# Altium integrated library RES_CHIP_JLC.IntLib: 321 symbols (part 1 of 2)
Pins are listed as number, name and electrical type; pins without a type are passive.

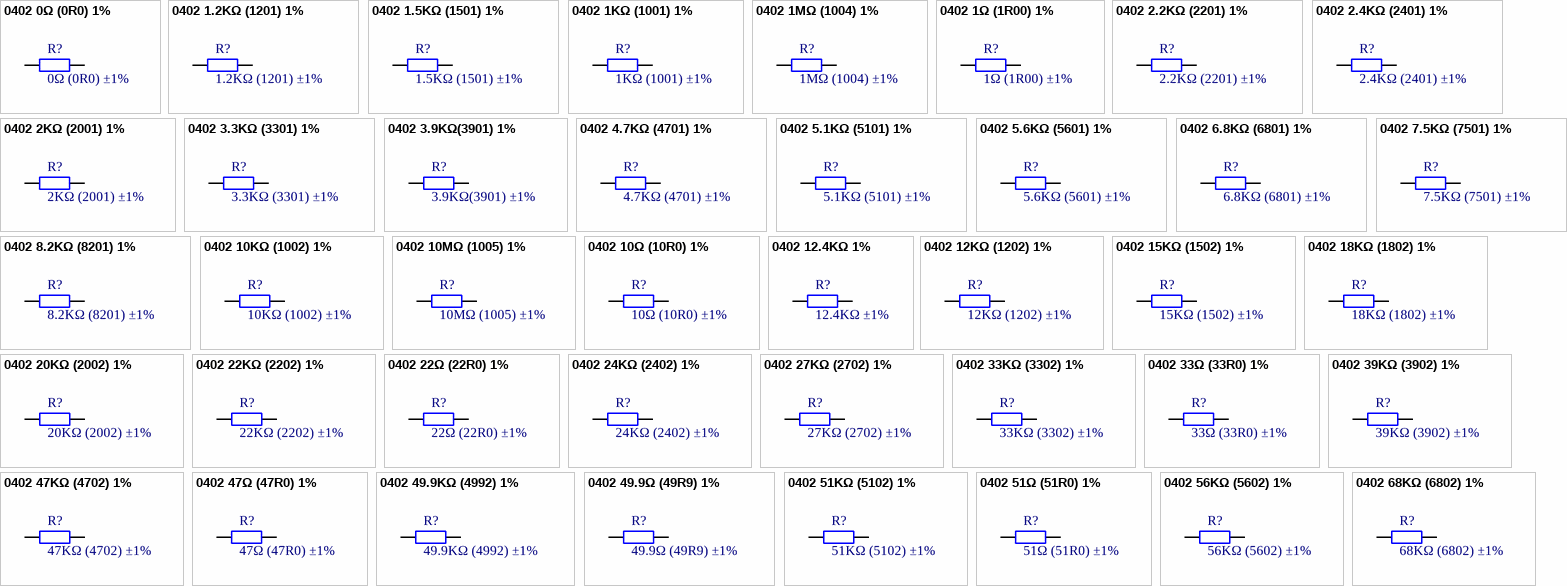
[diagram p0: symbols 0402 0Ω (0R0) 1% to 0402 68KΩ (6802) 1%]

## 0402 0Ω (0R0) 1%
designator R?, comment 0Ω (0R0) ±1%
贴片电阻; ComponentLink1Description: 供应商链接; ComponentLink1URL: http://www.szlcsc.com/product/details_17853.html; Package: 0402; Supplier: LC; SuppliersPartNumber: C17168
footprint 0402_R
pins: 1, 2

## 0402 1.2KΩ (1201) 1%
designator R?, comment 1.2KΩ (1201) ±1%
贴片电阻; ComponentLink1Description: 供应商链接; ComponentLink1URL: http://www.szlcsc.com/product/details_26605.html; Package: 0402; Supplier: LC; SuppliersPartNumber: C25862
footprint 0402_R
pins: 1, 2

## 0402 1.5KΩ (1501) 1%
designator R?, comment 1.5KΩ (1501) ±1%
贴片电阻; ComponentLink1Description: 供应商链接; ComponentLink1URL: http://www.szlcsc.com/product/details_26610.html; Package: 0402; Supplier: LC; SuppliersPartNumber: C25867
footprint 0402_R
pins: 1, 2

## 0402 1KΩ (1001) 1%
designator R?, comment 1KΩ (1001) ±1%
贴片电阻; ComponentLink1Description: 供应商链接; ComponentLink1URL: http://www.szlcsc.com/product/details_12256.html; Package: 0402; Supplier: LC; SuppliersPartNumber: C11702
footprint 0402_R
pins: 1, 2

## 0402 1MΩ (1004) 1%
designator R?, comment 1MΩ (1004) ±1%
贴片电阻; ComponentLink1Description: 供应商链接; ComponentLink1URL: http://www.szlcsc.com/product/details_26826.html; Package: 0402; Supplier: LC; SuppliersPartNumber: C26083
footprint 0402_R
pins: 1, 2

## 0402 1Ω (1R00) 1%
designator R?, comment 1Ω (1R00) ±1%
贴片电阻; ComponentLink1Description: 供应商链接; ComponentLink1URL: http://www.szlcsc.com/product/details_25829.html; Package: 0402; Supplier: LC; SuppliersPartNumber: C25086
footprint 0402_R
pins: 1, 2

## 0402 2.2KΩ (2201) 1%
designator R?, comment 2.2KΩ (2201) ±1%
贴片电阻; ComponentLink1Description: 供应商链接; ComponentLink1URL: http://www.szlcsc.com/product/details_26622.html; Package: 0402; Supplier: LC; SuppliersPartNumber: C25879
footprint 0402_R
pins: 1, 2

## 0402 2.4KΩ (2401) 1%
designator R?, comment 2.4KΩ (2401) ±1%
贴片电阻; ComponentLink1Description: 供应商链接; ComponentLink1URL: http://www.szlcsc.com/product/details_26625.html; Package: 0402; Supplier: LC; SuppliersPartNumber: C25882
footprint 0402_R
pins: 1, 2

## 0402 2KΩ (2001) 1%
designator R?, comment 2KΩ (2001) ±1%
贴片电阻; ComponentLink1Description: 供应商链接; ComponentLink1URL: http://www.szlcsc.com/product/details_4516.html; Package: 0402; Supplier: LC; SuppliersPartNumber: C4109
footprint 0402_R
pins: 1, 2

## 0402 3.3KΩ (3301) 1%
designator R?, comment 3.3KΩ (3301) ±1%
贴片电阻; ComponentLink1Description: 供应商链接; ComponentLink1URL: http://www.szlcsc.com/product/details_26633.html; Package: 0402; Supplier: LC; SuppliersPartNumber: C25890
footprint 0402_R
pins: 1, 2

## 0402 3.9KΩ(3901) 1%
designator R?, comment 3.9KΩ(3901) ±1%
贴片电阻; ComponentLink1Description: 供应商链接; ComponentLink1URL: http://www.szlcsc.com/product/details_52734.html; Package: 0402; Supplier: LC; SuppliersPartNumber: C51721
footprint 0402_R
pins: 1, 2

## 0402 4.7KΩ (4701) 1%
designator R?, comment 4.7KΩ (4701) ±1%
贴片电阻; ComponentLink1Description: 供应商链接; ComponentLink1URL: http://www.szlcsc.com/product/details_26643.html; Package: 0402; Supplier: LC; SuppliersPartNumber: C25900
footprint 0402_R
pins: 1, 2

## 0402 5.1KΩ (5101) 1%
designator R?, comment 5.1KΩ (5101) ±1%
贴片电阻; ComponentLink1Description: 供应商链接; ComponentLink1URL: http://www.szlcsc.com/product/details_26648.html; Package: 0402; Supplier: LC; SuppliersPartNumber: C25905
footprint 0402_R
pins: 1, 2

## 0402 5.6KΩ (5601) 1%
designator R?, comment 5.6KΩ (5601) ±1%
贴片电阻; ComponentLink1Description: 供应商链接; ComponentLink1URL: http://www.szlcsc.com/product/details_26651.html; Package: 0402; Supplier: LC; SuppliersPartNumber: C25908
footprint 0402_R
pins: 1, 2

## 0402 6.8KΩ (6801) 1%
designator R?, comment 6.8KΩ (6801) ±1%
贴片电阻; ComponentLink1Description: 供应商链接; ComponentLink1URL: http://www.szlcsc.com/product/details_26660.html; Package: 0402; Supplier: LC; SuppliersPartNumber: C25917
footprint 0402_R
pins: 1, 2

## 0402 7.5KΩ (7501) 1%
designator R?, comment 7.5KΩ (7501) ±1%
贴片电阻; ComponentLink1Description: 供应商链接; ComponentLink1URL: http://www.szlcsc.com/product/details_26661.html; Package: 0402; Supplier: LC; SuppliersPartNumber: C25918
footprint 0402_R
pins: 1, 2

## 0402 8.2KΩ (8201) 1%
designator R?, comment 8.2KΩ (8201) ±1%
贴片电阻; ComponentLink1Description: 供应商链接; ComponentLink1URL: http://www.szlcsc.com/product/details_26667.html; Package: 0402; Supplier: LC; SuppliersPartNumber: C25924
footprint 0402_R
pins: 1, 2

## 0402 10KΩ (1002) 1%
designator R?, comment 10KΩ (1002) ±1%
贴片电阻; ComponentLink1Description: 供应商链接; ComponentLink1URL: http://www.szlcsc.com/product/details_26487.html; Package: 0402; Supplier: LC; SuppliersPartNumber: C25744
footprint 0402_R
pins: 1, 2

## 0402 10MΩ (1005) 1%
designator R?, comment 10MΩ (1005) ±1%
贴片电阻; ComponentLink1Description: 供应商链接; ComponentLink1URL: http://www.szlcsc.com/product/details_26825.html; Package: 0402; Supplier: LC; SuppliersPartNumber: C26082
footprint 0402_R
pins: 1, 2

## 0402 10Ω (10R0) 1%
designator R?, comment 10Ω (10R0) ±1%
贴片电阻; ComponentLink1Description: 供应商链接; ComponentLink1URL: http://www.szlcsc.com/product/details_25820.html; Package: 0402; Supplier: LC; SuppliersPartNumber: C25077
footprint 0402_R
pins: 1, 2

## 0402 12.4KΩ 1%
designator R?, comment 12.4KΩ ±1%
贴片电阻; ComponentLink1Description: 供应商链接; ComponentLink1URL: http://www.szlcsc.com/product/details_26495.html; Package: 0402; Supplier: LC; SuppliersPartNumber: C25752
footprint 0402_R
pins: 1, 2

## 0402 12KΩ (1202) 1%
designator R?, comment 12KΩ (1202) ±1%
贴片电阻; ComponentLink1Description: 供应商链接; ComponentLink1URL: http://www.szlcsc.com/product/details_26495.html; Package: 0402; Supplier: LC; SuppliersPartNumber: C25752
footprint 0402_R
pins: 1, 2

## 0402 15KΩ (1502) 1%
designator R?, comment 15KΩ (1502) ±1%
贴片电阻; ComponentLink1Description: 供应商链接; ComponentLink1URL: http://www.szlcsc.com/product/details_26499.html; Package: 0402; Supplier: LC; SuppliersPartNumber: C25756
footprint 0402_R
pins: 1, 2

## 0402 18KΩ (1802) 1%
designator R?, comment 18KΩ (1802) ±1%
贴片电阻; ComponentLink1Description: 供应商链接; ComponentLink1URL: http://www.szlcsc.com/product/details_26505.html; Package: 0402; Supplier: LC; SuppliersPartNumber: C25762
footprint 0402_R
pins: 1, 2

## 0402 20KΩ (2002) 1%
designator R?, comment 20KΩ (2002) ±1%
贴片电阻; ComponentLink1Description: 供应商链接; ComponentLink1URL: http://www.szlcsc.com/product/details_26508.html; Package: 0402; Supplier: LC; SuppliersPartNumber: C25765
footprint 0402_R
pins: 1, 2

## 0402 22KΩ (2202) 1%
designator R?, comment 22KΩ (2202) ±1%
贴片电阻; ComponentLink1Description: 供应商链接; ComponentLink1URL: http://www.szlcsc.com/product/details_26511.html; Package: 0402; Supplier: LC; SuppliersPartNumber: C25768
footprint 0402_R
pins: 1, 2

## 0402 22Ω (22R0) 1%
designator R?, comment 22Ω (22R0) ±1%
贴片电阻; ComponentLink1Description: 供应商链接; ComponentLink1URL: http://www.szlcsc.com/product/details_25835.html; Package: 0402; Supplier: LC; SuppliersPartNumber: C25092
footprint 0402_R
pins: 1, 2

## 0402 24KΩ (2402) 1%
designator R?, comment 24KΩ (2402) ±1%
贴片电阻; ComponentLink1Description: 供应商链接; ComponentLink1URL: http://www.szlcsc.com/product/details_26512.html; Package: 0402; Supplier: LC; SuppliersPartNumber: C25769
footprint 0402_R
pins: 1, 2

## 0402 27KΩ (2702) 1%
designator R?, comment 27KΩ (2702) ±1%
贴片电阻; ComponentLink1Description: 供应商链接; ComponentLink1URL: http://www.szlcsc.com/product/details_26514.html; Package: 0402; Supplier: LC; SuppliersPartNumber: C25771
footprint 0402_R
pins: 1, 2

## 0402 33KΩ (3302) 1%
designator R?, comment 33KΩ (3302) ±1%
贴片电阻; ComponentLink1Description: 供应商链接; ComponentLink1URL: http://www.szlcsc.com/product/details_26522.html; Package: 0402; Supplier: LC; SuppliersPartNumber: C25779
footprint 0402_R
pins: 1, 2

## 0402 33Ω (33R0) 1%
designator R?, comment 33Ω (33R0) ±1%
贴片电阻; ComponentLink1Description: 供应商链接; ComponentLink1URL: http://www.szlcsc.com/product/details_25848.html; Package: 0402; Supplier: LC; SuppliersPartNumber: C25105
footprint 0402_R
pins: 1, 2

## 0402 39KΩ (3902) 1%
designator R?, comment 39KΩ (3902) ±1%
贴片电阻; ComponentLink1Description: 供应商链接; ComponentLink1URL: http://www.szlcsc.com/product/details_26526.html; Package: 0402; Supplier: LC; SuppliersPartNumber: C25783
footprint 0402_R
pins: 1, 2

## 0402 47KΩ (4702) 1%
designator R?, comment 47KΩ (4702) ±1%
贴片电阻; ComponentLink1Description: 供应商链接; ComponentLink1URL: http://www.szlcsc.com/product/details_26535.html; Package: 0402; Supplier: LC; SuppliersPartNumber: C25792
footprint 0402_R
pins: 1, 2

## 0402 47Ω (47R0) 1%
designator R?, comment 47Ω (47R0) ±1%
贴片电阻; ComponentLink1Description: 供应商链接; ComponentLink1URL: http://www.szlcsc.com/product/details_25861.html; Package: 0402; Supplier: LC; SuppliersPartNumber: C25118
footprint 0402_R
pins: 1, 2

## 0402 49.9KΩ (4992) 1%
designator R?, comment 49.9KΩ (4992) ±1%
贴片电阻; ComponentLink1Description: 供应商链接; ComponentLink1URL: http://www.szlcsc.com/product/details_26640.html; Package: 0402; Supplier: LC; SuppliersPartNumber: C25897
footprint 0402_R
pins: 1, 2

## 0402 49.9Ω (49R9) 1%
designator R?, comment 49.9Ω (49R9) ±1%
贴片电阻; ComponentLink1Description: 供应商链接; ComponentLink1URL: http://www.szlcsc.com/product/details_25863.html; Package: 0402; Supplier: LC; SuppliersPartNumber: C25120
footprint 0402_R
pins: 1, 2

## 0402 51KΩ (5102) 1%
designator R?, comment 51KΩ (5102) ±1%
贴片电阻; ComponentLink1Description: 供应商链接; ComponentLink1URL: http://www.szlcsc.com/product/details_26537.html; Package: 0402; Supplier: LC; SuppliersPartNumber: C25794
footprint 0402_R
pins: 1, 2

## 0402 51Ω (51R0) 1%
designator R?, comment 51Ω (51R0) ±1%
贴片电阻; ComponentLink1Description: 供应商链接; ComponentLink1URL: http://www.szlcsc.com/product/details_25868.html; Package: 0402; Supplier: LC; SuppliersPartNumber: C25125
footprint 0402_R
pins: 1, 2

## 0402 56KΩ (5602) 1%
designator R?, comment 56KΩ (5602) ±1%
贴片电阻; ComponentLink1Description: 供应商链接; ComponentLink1URL: http://www.szlcsc.com/product/details_26539.html; Package: 0402; Supplier: LC; SuppliersPartNumber: C25796
footprint 0402_R
pins: 1, 2

## 0402 68KΩ (6802) 1%
designator R?, comment 68KΩ (6802) ±1%
贴片电阻; ComponentLink1Description: 供应商链接; ComponentLink1URL: http://www.szlcsc.com/product/details_37849.html; Package: 0402; Supplier: LC; SuppliersPartNumber: C36871
footprint 0402_R
pins: 1, 2

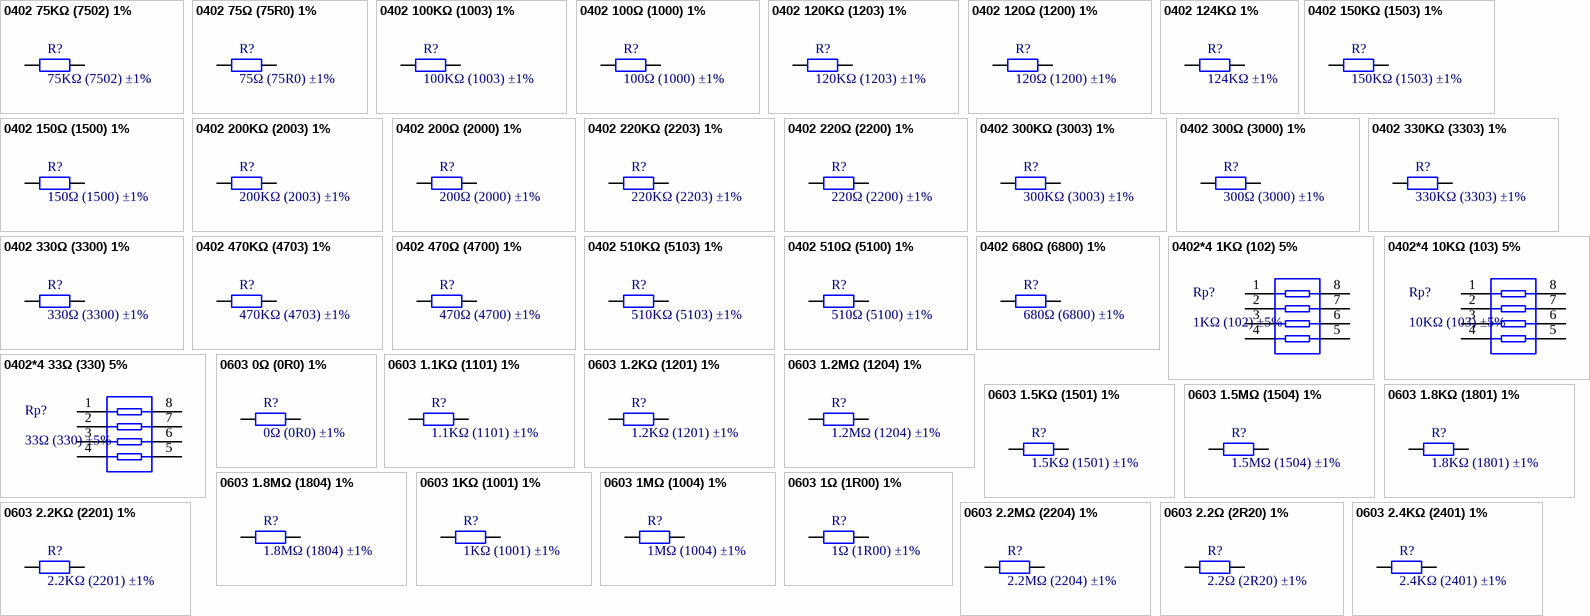
[diagram p1: symbols 0402 75KΩ (7502) 1% to 0603 2.4KΩ (2401) 1%]

## 0402 75KΩ (7502) 1%
designator R?, comment 75KΩ (7502) ±1%
贴片电阻; ComponentLink1Description: 供应商链接; ComponentLink1URL: http://www.szlcsc.com/product/details_26541.html; Package: 0402; Supplier: LC; SuppliersPartNumber: C25798
footprint 0402_R
pins: 1, 2

## 0402 75Ω (75R0) 1%
designator R?, comment 75Ω (75R0) ±1%
贴片电阻; ComponentLink1Description: 供应商链接; ComponentLink1URL: http://www.szlcsc.com/product/details_25876.html; Package: 0402; Supplier: LC; SuppliersPartNumber: C25133
footprint 0402_R
pins: 1, 2

## 0402 100KΩ (1003) 1%
designator R?, comment 100KΩ (1003) ±1%
贴片电阻; ComponentLink1Description: 供应商链接; ComponentLink1URL: http://www.szlcsc.com/product/details_26484.html; Package: 0402; Supplier: LC; SuppliersPartNumber: C25741
footprint 0402_R
pins: 1, 2

## 0402 100Ω (1000) 1%
designator R?, comment 100Ω (1000) ±1%
贴片电阻; ComponentLink1Description: 供应商链接; ComponentLink1URL: http://www.szlcsc.com/product/details_25819.html; Package: 0402; Supplier: LC; SuppliersPartNumber: C25076
footprint 0402_R
pins: 1, 2

## 0402 120KΩ (1203) 1%
designator R?, comment 120KΩ (1203) ±1%
贴片电阻; ComponentLink1Description: 供应商链接; ComponentLink1URL: http://www.szlcsc.com/product/details_26493.html; Package: 0402; Supplier: LC; SuppliersPartNumber: C25750
footprint 0402_R
pins: 1, 2

## 0402 120Ω (1200) 1%
designator R?, comment 120Ω (1200) ±1%
贴片电阻; ComponentLink1Description: 供应商链接; ComponentLink1URL: http://www.szlcsc.com/product/details_25822.html; Package: 0402; Supplier: LC; SuppliersPartNumber: C25079
footprint 0402_R
pins: 1, 2

## 0402 124KΩ 1%
designator R?, comment 124KΩ ±1%
贴片电阻; ComponentLink1Description: 供应商链接; ComponentLink1URL: http://www.szlcsc.com/product/details_26493.html; Package: 0402; Supplier: LC; SuppliersPartNumber: C25750
footprint 0402_R
pins: 1, 2

## 0402 150KΩ (1503) 1%
designator R?, comment 150KΩ (1503) ±1%
贴片电阻; ComponentLink1Description: 供应商链接; ComponentLink1URL: http://www.szlcsc.com/product/details_26498.html; Package: 0402; Supplier: LC; SuppliersPartNumber: C25755
footprint 0402_R
pins: 1, 2

## 0402 150Ω (1500) 1%
designator R?, comment 150Ω (1500) ±1%
贴片电阻; ComponentLink1Description: 供应商链接; ComponentLink1URL: http://www.szlcsc.com/product/details_25825.html; Package: 0402; Supplier: LC; SuppliersPartNumber: C25082
footprint 0402_R
pins: 1, 2

## 0402 200KΩ (2003) 1%
designator R?, comment 200KΩ (2003) ±1%
贴片电阻; ComponentLink1Description: 供应商链接; ComponentLink1URL: http://www.szlcsc.com/product/details_26507.html; Package: 0402; Supplier: LC; SuppliersPartNumber: C25764
footprint 0402_R
pins: 1, 2

## 0402 200Ω (2000) 1%
designator R?, comment 200Ω (2000) ±1%
贴片电阻; ComponentLink1Description: 供应商链接; ComponentLink1URL: http://www.szlcsc.com/product/details_25830.html; Package: 0402; Supplier: LC; SuppliersPartNumber: C25087
footprint 0402_R
pins: 1, 2

## 0402 220KΩ (2203) 1%
designator R?, comment 220KΩ (2203) ±1%
贴片电阻; ComponentLink1Description: 供应商链接; ComponentLink1URL: http://www.szlcsc.com/product/details_26510.html; Package: 0402; Supplier: LC; SuppliersPartNumber: C25767
footprint 0402_R
pins: 1, 2

## 0402 220Ω (2200) 1%
designator R?, comment 220Ω (2200) ±1%
贴片电阻; ComponentLink1Description: 供应商链接; ComponentLink1URL: http://www.szlcsc.com/product/details_25834.html; Package: 0402; Supplier: LC; SuppliersPartNumber: C25091
footprint 0402_R
pins: 1, 2

## 0402 300KΩ (3003) 1%
designator R?, comment 300KΩ (3003) ±1%
贴片电阻; ComponentLink1Description: 供应商链接; ComponentLink1URL: http://www.szlcsc.com/product/details_26517.html; Package: 0402; Supplier: LC; SuppliersPartNumber: C25774
footprint 0402_R
pins: 1, 2

## 0402 300Ω (3000) 1%
designator R?, comment 300Ω (3000) ±1%
贴片电阻; ComponentLink1Description: 供应商链接; ComponentLink1URL: http://www.szlcsc.com/product/details_25845.html; Package: 0402; Supplier: LC; SuppliersPartNumber: C25102
footprint 0402_R
pins: 1, 2

## 0402 330KΩ (3303) 1%
designator R?, comment 330KΩ (3303) ±1%
贴片电阻; ComponentLink1Description: 供应商链接; ComponentLink1URL: http://www.szlcsc.com/product/details_26521.html; Package: 0402; Supplier: LC; SuppliersPartNumber: C25778
footprint 0402_R
pins: 1, 2

## 0402 330Ω (3300) 1%
designator R?, comment 330Ω (3300) ±1%
贴片电阻; ComponentLink1Description: 供应商链接; ComponentLink1URL: http://www.szlcsc.com/product/details_25847.html; Package: 0402; Supplier: LC; SuppliersPartNumber: C25104
footprint 0402_R
pins: 1, 2

## 0402 470KΩ (4703) 1%
designator R?, comment 470KΩ (4703) ±1%
贴片电阻; ComponentLink1Description: 供应商链接; ComponentLink1URL: http://www.szlcsc.com/product/details_26533.html; Package: 0402; Supplier: LC; SuppliersPartNumber: C25790
footprint 0402_R
pins: 1, 2

## 0402 470Ω (4700) 1%
designator R?, comment 470Ω (4700) ±1%
贴片电阻; ComponentLink1Description: 供应商链接; ComponentLink1URL: http://www.szlcsc.com/product/details_25860.html; Package: 0402; Supplier: LC; SuppliersPartNumber: C25117
footprint 0402_R
pins: 1, 2

## 0402 510KΩ (5103) 1%
designator R?, comment 510KΩ (5103) ±1%
贴片电阻; ComponentLink1Description: 供应商链接; ComponentLink1URL: http://www.szlcsc.com/product/details_12170.html; Package: 0402; Supplier: LC; SuppliersPartNumber: C11616
footprint 0402_R
pins: 1, 2

## 0402 510Ω (5100) 1%
designator R?, comment 510Ω (5100) ±1%
贴片电阻; ComponentLink1Description: 供应商链接; ComponentLink1URL: http://www.szlcsc.com/product/details_25866.html; Package: 0402; Supplier: LC; SuppliersPartNumber: C25123
footprint 0402_R
pins: 1, 2

## 0402 680Ω (6800) 1%
designator R?, comment 680Ω (6800) ±1%
贴片电阻; ComponentLink1Description: 供应商链接; ComponentLink1URL: http://www.szlcsc.com/product/details_25873.html; Package: 0402; Supplier: LC; SuppliersPartNumber: C25130
footprint 0402_R
pins: 1, 2

## 0402*4 1KΩ (102) 5%
designator Rp?, comment 1KΩ (102) ±5%
贴片排阻; ComponentLink1Description: 供应商链接; ComponentLink1URL: http://www.szlcsc.com/product/details_26469.html; Package: 0402*4; Supplier: LC; SuppliersPartNumber: C25726
footprint 0402_Rx4
pins: 1, 2, 3, 4, 5, 6, 7, 8

## 0402*4 10KΩ (103) 5%
designator Rp?, comment 10KΩ (103) ±5%
贴片排阻; ComponentLink1Description: 供应商链接; ComponentLink1URL: http://www.szlcsc.com/product/details_26468.html; Package: 0402*4; Supplier: LC; SuppliersPartNumber: C25725
footprint 0402_Rx4
pins: 1, 2, 3, 4, 5, 6, 7, 8

## 0402*4 33Ω (330) 5%
designator Rp?, comment 33Ω (330) ±5%
贴片排阻; ComponentLink1Description: 供应商链接; ComponentLink1URL: http://www.szlcsc.com/product/details_26244.html; Package: 0402*4; Supplier: LC; SuppliersPartNumber: C25501
footprint 0402_Rx4
pins: 1, 2, 3, 4, 5, 6, 7, 8

## 0603 0Ω (0R0) 1%
designator R?, comment 0Ω (0R0) ±1%
贴片电阻; ComponentLink1Description: 供应商链接; ComponentLink1URL: http://www.szlcsc.com/product/details_21903.html; Package: 0603; Supplier: LC; SuppliersPartNumber: C21189
footprint 0603_R
pins: 1, 2

## 0603 1.1KΩ (1101) 1%
designator R?, comment 1.1KΩ (1101) ±1%
贴片电阻; ComponentLink1Description: 供应商链接; ComponentLink1URL: http://www.szlcsc.com/product/details_23491.html; Package: 0603; Supplier: LC; SuppliersPartNumber: C22764
footprint 0603_R
pins: 1, 2

## 0603 1.2KΩ (1201) 1%
designator R?, comment 1.2KΩ (1201) ±1%
贴片电阻; ComponentLink1Description: 供应商链接; ComponentLink1URL: http://www.szlcsc.com/product/details_23492.html; Package: 0603; Supplier: LC; SuppliersPartNumber: C22765
footprint 0603_R
pins: 1, 2

## 0603 1.2MΩ (1204) 1%
designator R?, comment 1.2MΩ (1204) ±1%
贴片电阻; ComponentLink1Description: 供应商链接; ComponentLink1URL: http://www.szlcsc.com/product/details_23493.html; Package: 0603; Supplier: LC; SuppliersPartNumber: C22766
footprint 0603_R
pins: 1, 2

## 0603 1.5KΩ (1501) 1%
designator R?, comment 1.5KΩ (1501) ±1%
贴片电阻; ComponentLink1Description: 供应商链接; ComponentLink1URL: http://www.szlcsc.com/product/details_23570.html; Package: 0603; Supplier: LC; SuppliersPartNumber: C22843
footprint 0603_R
pins: 1, 2

## 0603 1.5MΩ (1504) 1%
designator R?, comment 1.5MΩ (1504) ±1%
贴片电阻; ComponentLink1Description: 供应商链接; ComponentLink1URL: http://www.szlcsc.com/product/details_4579.html; Package: 0603; Supplier: LC; SuppliersPartNumber: C4172
footprint 0603_R
pins: 1, 2

## 0603 1.8KΩ (1801) 1%
designator R?, comment 1.8KΩ (1801) ±1%
贴片电阻; ComponentLink1Description: 供应商链接; ComponentLink1URL: http://www.szlcsc.com/product/details_4584.html; Package: 0603; Supplier: LC; SuppliersPartNumber: C4177
footprint 0603_R
pins: 1, 2

## 0603 1.8MΩ (1804) 1%
designator R?, comment 1.8MΩ (1804) ±1%
贴片电阻; ComponentLink1Description: 供应商链接; ComponentLink1URL: http://www.szlcsc.com/product/details_23579.html; Package: 0603; Supplier: LC; SuppliersPartNumber: C22852
footprint 0603_R
pins: 1, 2

## 0603 1KΩ (1001) 1%
designator R?, comment 1KΩ (1001) ±1%
贴片电阻; ComponentLink1Description: 供应商链接; ComponentLink1URL: http://www.szlcsc.com/product/details_21904.html; Package: 0603; Supplier: LC; SuppliersPartNumber: C21190
footprint 0603_R
pins: 1, 2

## 0603 1MΩ (1004) 1%
designator R?, comment 1MΩ (1004) ±1%
贴片电阻; ComponentLink1Description: 供应商链接; ComponentLink1URL: http://www.szlcsc.com/product/details_23662.html; Package: 0603; Supplier: LC; SuppliersPartNumber: C22935
footprint 0603_R
pins: 1, 2

## 0603 1Ω (1R00) 1%
designator R?, comment 1Ω (1R00) ±1%
贴片电阻; ComponentLink1Description: 供应商链接; ComponentLink1URL: http://www.szlcsc.com/product/details_23663.html; Package: 0603; Supplier: LC; SuppliersPartNumber: C22936
footprint 0603_R
pins: 1, 2

## 0603 2.2KΩ (2201) 1%
designator R?, comment 2.2KΩ (2201) ±1%
贴片电阻; ComponentLink1Description: 供应商链接; ComponentLink1URL: http://www.szlcsc.com/product/details_4597.html; Package: 0603; Supplier: LC; SuppliersPartNumber: C4190
footprint 0603_R
pins: 1, 2

## 0603 2.2MΩ (2204) 1%
designator R?, comment 2.2MΩ (2204) ±1%
贴片电阻; ComponentLink1Description: 供应商链接; ComponentLink1URL: http://www.szlcsc.com/product/details_23665.html; Package: 0603; Supplier: LC; SuppliersPartNumber: C22938
footprint 0603_R
pins: 1, 2

## 0603 2.2Ω (2R20) 1%
designator R?, comment 2.2Ω (2R20) ±1%
贴片电阻; ComponentLink1Description: 供应商链接; ComponentLink1URL: http://www.szlcsc.com/product/details_23666.html; Package: 0603; Supplier: LC; SuppliersPartNumber: C22939
footprint 0603_R
pins: 1, 2

## 0603 2.4KΩ (2401) 1%
designator R?, comment 2.4KΩ (2401) ±1%
贴片电阻; ComponentLink1Description: 供应商链接; ComponentLink1URL: http://www.szlcsc.com/product/details_23667.html; Package: 0603; Supplier: LC; SuppliersPartNumber: C22940
footprint 0603_R
pins: 1, 2

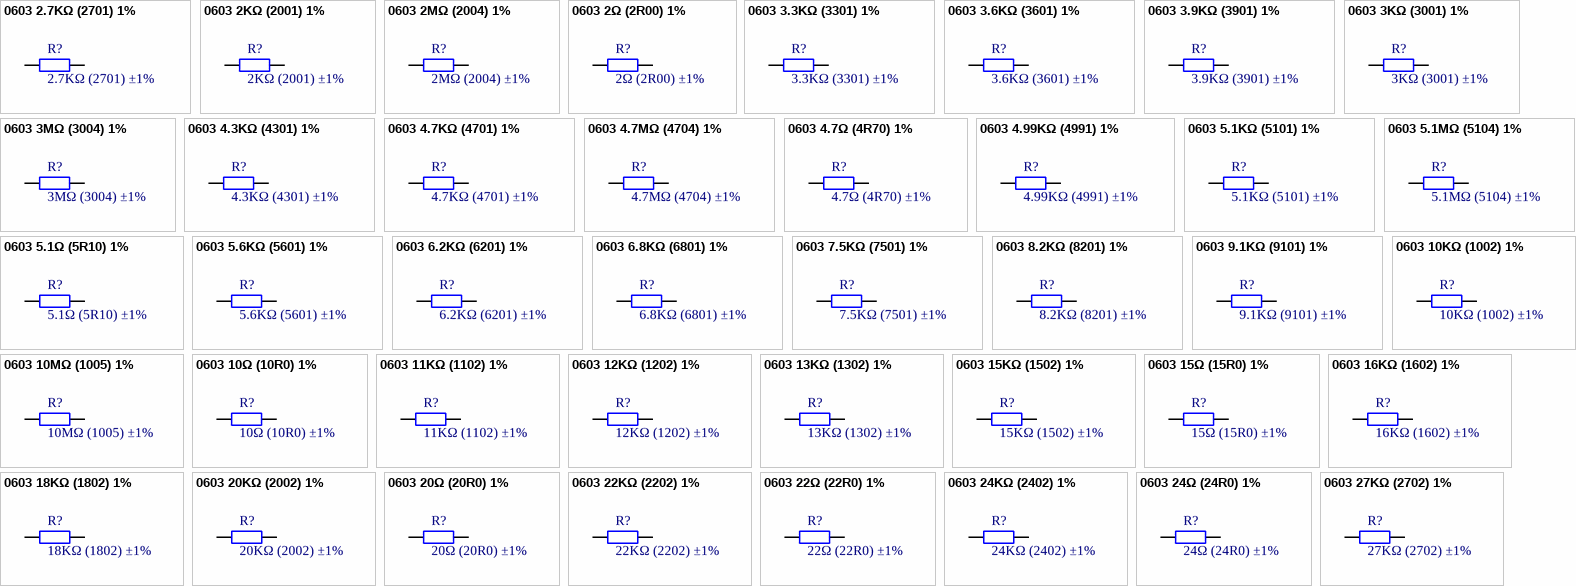
[diagram p2: symbols 0603 2.7KΩ (2701) 1% to 0603 27KΩ (2702) 1%]

## 0603 2.7KΩ (2701) 1%
designator R?, comment 2.7KΩ (2701) ±1%
贴片电阻; ComponentLink1Description: 供应商链接; ComponentLink1URL: http://www.szlcsc.com/product/details_13814.html; Package: 0603; Supplier: LC; SuppliersPartNumber: C13167
footprint 0603_R
pins: 1, 2

## 0603 2KΩ (2001) 1%
designator R?, comment 2KΩ (2001) ±1%
贴片电阻; ComponentLink1Description: 供应商链接; ComponentLink1URL: http://www.szlcsc.com/product/details_23702.html; Package: 0603; Supplier: LC; SuppliersPartNumber: C22975
footprint 0603_R
pins: 1, 2

## 0603 2MΩ (2004) 1%
designator R?, comment 2MΩ (2004) ±1%
贴片电阻; ComponentLink1Description: 供应商链接; ComponentLink1URL: http://www.szlcsc.com/product/details_23703.html; Package: 0603; Supplier: LC; SuppliersPartNumber: C22976
footprint 0603_R
pins: 1, 2

## 0603 2Ω (2R00) 1%
designator R?, comment 2Ω (2R00) ±1%
贴片电阻; ComponentLink1Description: 供应商链接; ComponentLink1URL: http://www.szlcsc.com/product/details_23704.html; Package: 0603; Supplier: LC; SuppliersPartNumber: C22977
footprint 0603_R
pins: 1, 2

## 0603 3.3KΩ (3301) 1%
designator R?, comment 3.3KΩ (3301) ±1%
贴片电阻; ComponentLink1Description: 供应商链接; ComponentLink1URL: http://www.szlcsc.com/product/details_23705.html; Package: 0603; Supplier: LC; SuppliersPartNumber: C22978
footprint 0603_R
pins: 1, 2

## 0603 3.6KΩ (3601) 1%
designator R?, comment 3.6KΩ (3601) ±1%
贴片电阻; ComponentLink1Description: 供应商链接; ComponentLink1URL: http://www.szlcsc.com/product/details_23707.html; Package: 0603; Supplier: LC; SuppliersPartNumber: C22980
footprint 0603_R
pins: 1, 2

## 0603 3.9KΩ (3901) 1%
designator R?, comment 3.9KΩ (3901) ±1%
贴片电阻; ComponentLink1Description: 供应商链接; ComponentLink1URL: http://www.szlcsc.com/product/details_23745.html; Package: 0603; Supplier: LC; SuppliersPartNumber: C23018
footprint 0603_R
pins: 1, 2

## 0603 3KΩ (3001) 1%
designator R?, comment 3KΩ (3001) ±1%
贴片电阻; ComponentLink1Description: 供应商链接; ComponentLink1URL: http://www.szlcsc.com/product/details_4618.html; Package: 0603; Supplier: LC; SuppliersPartNumber: C4211
footprint 0603_R
pins: 1, 2

## 0603 3MΩ (3004) 1%
designator R?, comment 3MΩ (3004) ±1%
贴片电阻; ComponentLink1Description: 供应商链接; ComponentLink1URL: http://www.szlcsc.com/product/details_23883.html; Package: 0603; Supplier: LC; SuppliersPartNumber: C23156
footprint 0603_R
pins: 1, 2

## 0603 4.3KΩ (4301) 1%
designator R?, comment 4.3KΩ (4301) ±1%
贴片电阻; ComponentLink1Description: 供应商链接; ComponentLink1URL: http://www.szlcsc.com/product/details_23886.html; Package: 0603; Supplier: LC; SuppliersPartNumber: C23159
footprint 0603_R
pins: 1, 2

## 0603 4.7KΩ (4701) 1%
designator R?, comment 4.7KΩ (4701) ±1%
贴片电阻; ComponentLink1Description: 供应商链接; ComponentLink1URL: http://www.szlcsc.com/product/details_23889.html; Package: 0603; Supplier: LC; SuppliersPartNumber: C23162
footprint 0603_R
pins: 1, 2

## 0603 4.7MΩ (4704) 1%
designator R?, comment 4.7MΩ (4704) ±1%
贴片电阻; ComponentLink1Description: 供应商链接; ComponentLink1URL: http://www.szlcsc.com/product/details_23890.html; Package: 0603; Supplier: LC; SuppliersPartNumber: C23163
footprint 0603_R
pins: 1, 2

## 0603 4.7Ω (4R70) 1%
designator R?, comment 4.7Ω (4R70) ±1%
贴片电阻; ComponentLink1Description: 供应商链接; ComponentLink1URL: http://www.szlcsc.com/product/details_23891.html; Package: 0603; Supplier: LC; SuppliersPartNumber: C23164
footprint 0603_R
pins: 1, 2

## 0603 4.99KΩ (4991) 1%
designator R?, comment 4.99KΩ (4991) ±1%
贴片电阻; ComponentLink1Description: 供应商链接; ComponentLink1URL: http://www.szlcsc.com/product/details_23773.html; Package: 0603; Supplier: LC; SuppliersPartNumber: C23046
footprint 0603_R
pins: 1, 2

## 0603 5.1KΩ (5101) 1%
designator R?, comment 5.1KΩ (5101) ±1%
贴片电阻; ComponentLink1Description: 供应商链接; ComponentLink1URL: http://www.szlcsc.com/product/details_23913.html; Package: 0603; Supplier: LC; SuppliersPartNumber: C23186
footprint 0603_R
pins: 1, 2

## 0603 5.1MΩ (5104) 1%
designator R?, comment 5.1MΩ (5104) ±1%
贴片电阻; ComponentLink1Description: 供应商链接; ComponentLink1URL: http://www.szlcsc.com/product/details_13967.html; Package: 0603; Supplier: LC; SuppliersPartNumber: C13320
footprint 0603_R
pins: 1, 2

## 0603 5.1Ω (5R10) 1%
designator R?, comment 5.1Ω (5R10) ±1%
贴片电阻; ComponentLink1Description: 供应商链接; ComponentLink1URL: http://www.szlcsc.com/product/details_25940.html; Package: 0603; Supplier: LC; SuppliersPartNumber: C25197
footprint 0603_R
pins: 1, 2

## 0603 5.6KΩ (5601) 1%
designator R?, comment 5.6KΩ (5601) ±1%
贴片电阻; ComponentLink1Description: 供应商链接; ComponentLink1URL: http://www.szlcsc.com/product/details_23916.html; Package: 0603; Supplier: LC; SuppliersPartNumber: C23189
footprint 0603_R
pins: 1, 2

## 0603 6.2KΩ (6201) 1%
designator R?, comment 6.2KΩ (6201) ±1%
贴片电阻; ComponentLink1Description: 供应商链接; ComponentLink1URL: http://www.szlcsc.com/product/details_4667.html; Package: 0603; Supplier: LC; SuppliersPartNumber: C4260
footprint 0603_R
pins: 1, 2

## 0603 6.8KΩ (6801) 1%
designator R?, comment 6.8KΩ (6801) ±1%
贴片电阻; ComponentLink1Description: 供应商链接; ComponentLink1URL: http://www.szlcsc.com/product/details_23939.html; Package: 0603; Supplier: LC; SuppliersPartNumber: C23212
footprint 0603_R
pins: 1, 2

## 0603 7.5KΩ (7501) 1%
designator R?, comment 7.5KΩ (7501) ±1%
贴片电阻; ComponentLink1Description: 供应商链接; ComponentLink1URL: http://www.szlcsc.com/product/details_23961.html; Package: 0603; Supplier: LC; SuppliersPartNumber: C23234
footprint 0603_R
pins: 1, 2

## 0603 8.2KΩ (8201) 1%
designator R?, comment 8.2KΩ (8201) ±1%
贴片电阻; ComponentLink1Description: 供应商链接; ComponentLink1URL: http://www.szlcsc.com/product/details_26724.html; Package: 0603; Supplier: LC; SuppliersPartNumber: C25981
footprint 0603_R
pins: 1, 2

## 0603 9.1KΩ (9101) 1%
designator R?, comment 9.1KΩ (9101) ±1%
贴片电阻; ComponentLink1Description: 供应商链接; ComponentLink1URL: http://www.szlcsc.com/product/details_23987.html; Package: 0603; Supplier: LC; SuppliersPartNumber: C23260
footprint 0603_R
pins: 1, 2

## 0603 10KΩ (1002) 1%
designator R?, comment 10KΩ (1002) ±1%
贴片电阻; ComponentLink1Description: 供应商链接; ComponentLink1URL: http://www.szlcsc.com/product/details_26547.html; Package: 0603; Supplier: LC; SuppliersPartNumber: C25804
footprint 0603_R
pins: 1, 2

## 0603 10MΩ (1005) 1%
designator R?, comment 10MΩ (1005) ±1%
贴片电阻; ComponentLink1Description: 供应商链接; ComponentLink1URL: http://www.szlcsc.com/product/details_7726.html; Package: 0603; Supplier: LC; SuppliersPartNumber: C7250
footprint 0603_R
pins: 1, 2

## 0603 10Ω (10R0) 1%
designator R?, comment 10Ω (10R0) ±1%
贴片电阻; ComponentLink1Description: 供应商链接; ComponentLink1URL: http://www.szlcsc.com/product/details_23586.html; Package: 0603; Supplier: LC; SuppliersPartNumber: C22859
footprint 0603_R
pins: 1, 2

## 0603 11KΩ (1102) 1%
designator R?, comment 11KΩ (1102) ±1%
贴片电阻; ComponentLink1Description: 供应商链接; ComponentLink1URL: http://www.szlcsc.com/product/details_26693.html; Package: 0603; Supplier: LC; SuppliersPartNumber: C25950
footprint 0603_R
pins: 1, 2

## 0603 12KΩ (1202) 1%
designator R?, comment 12KΩ (1202) ±1%
贴片电阻; ComponentLink1Description: 供应商链接; ComponentLink1URL: http://www.szlcsc.com/product/details_23517.html; Package: 0603; Supplier: LC; SuppliersPartNumber: C22790
footprint 0603_R
pins: 1, 2

## 0603 13KΩ (1302) 1%
designator R?, comment 13KΩ (1302) ±1%
贴片电阻; ComponentLink1Description: 供应商链接; ComponentLink1URL: http://www.szlcsc.com/product/details_23524.html; Package: 0603; Supplier: LC; SuppliersPartNumber: C22797
footprint 0603_R
pins: 1, 2

## 0603 15KΩ (1502) 1%
designator R?, comment 15KΩ (1502) ±1%
贴片电阻; ComponentLink1Description: 供应商链接; ComponentLink1URL: http://www.szlcsc.com/product/details_23536.html; Package: 0603; Supplier: LC; SuppliersPartNumber: C22809
footprint 0603_R
pins: 1, 2

## 0603 15Ω (15R0) 1%
designator R?, comment 15Ω (15R0) ±1%
贴片电阻; ComponentLink1Description: 供应商链接; ComponentLink1URL: http://www.szlcsc.com/product/details_23537.html; Package: 0603; Supplier: LC; SuppliersPartNumber: C22810
footprint 0603_R
pins: 1, 2

## 0603 16KΩ (1602) 1%
designator R?, comment 16KΩ (1602) ±1%
贴片电阻; ComponentLink1Description: 供应商链接; ComponentLink1URL: http://www.szlcsc.com/product/details_23545.html; Package: 0603; Supplier: LC; SuppliersPartNumber: C22818
footprint 0603_R
pins: 1, 2

## 0603 18KΩ (1802) 1%
designator R?, comment 18KΩ (1802) ±1%
贴片电阻; ComponentLink1Description: 供应商链接; ComponentLink1URL: http://www.szlcsc.com/product/details_26553.html; Package: 0603; Supplier: LC; SuppliersPartNumber: C25810
footprint 0603_R
pins: 1, 2

## 0603 20KΩ (2002) 1%
designator R?, comment 20KΩ (2002) ±1%
贴片电阻; ComponentLink1Description: 供应商链接; ComponentLink1URL: http://www.szlcsc.com/product/details_4591.html; Package: 0603; Supplier: LC; SuppliersPartNumber: C4184
footprint 0603_R
pins: 1, 2

## 0603 20Ω (20R0) 1%
designator R?, comment 20Ω (20R0) ±1%
贴片电阻; ComponentLink1Description: 供应商链接; ComponentLink1URL: http://www.szlcsc.com/product/details_23677.html; Package: 0603; Supplier: LC; SuppliersPartNumber: C22950
footprint 0603_R
pins: 1, 2

## 0603 22KΩ (2202) 1%
designator R?, comment 22KΩ (2202) ±1%
贴片电阻; ComponentLink1Description: 供应商链接; ComponentLink1URL: http://www.szlcsc.com/product/details_32812.html; Package: 0603; Supplier: LC; SuppliersPartNumber: C31850
footprint 0603_R
pins: 1, 2

## 0603 22Ω (22R0) 1%
designator R?, comment 22Ω (22R0) ±1%
贴片电阻; ComponentLink1Description: 供应商链接; ComponentLink1URL: http://www.szlcsc.com/product/details_24078.html; Package: 0603; Supplier: LC; SuppliersPartNumber: C23345
footprint 0603_R
pins: 1, 2

## 0603 24KΩ (2402) 1%
designator R?, comment 24KΩ (2402) ±1%
贴片电阻; ComponentLink1Description: 供应商链接; ComponentLink1URL: http://www.szlcsc.com/product/details_24085.html; Package: 0603; Supplier: LC; SuppliersPartNumber: C23352
footprint 0603_R
pins: 1, 2

## 0603 24Ω (24R0) 1%
designator R?, comment 24Ω (24R0) ±1%
贴片电阻; ComponentLink1Description: 供应商链接; ComponentLink1URL: http://www.szlcsc.com/product/details_4605.html; Package: 0603; Supplier: LC; SuppliersPartNumber: C4198
footprint 0603_R
pins: 1, 2

## 0603 27KΩ (2702) 1%
designator R?, comment 27KΩ (2702) ±1%
贴片电阻; ComponentLink1Description: 供应商链接; ComponentLink1URL: http://www.szlcsc.com/product/details_23694.html; Package: 0603; Supplier: LC; SuppliersPartNumber: C22967
footprint 0603_R
pins: 1, 2

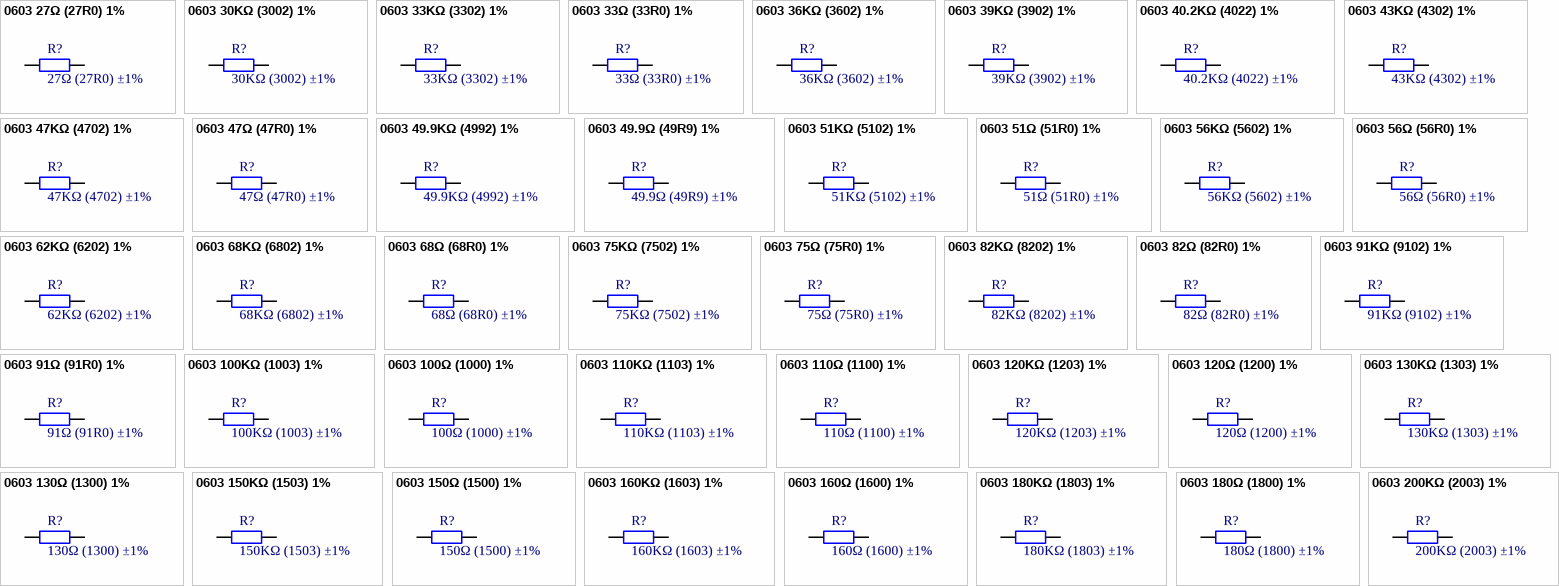
[diagram p3: symbols 0603 27Ω (27R0) 1% to 0603 200KΩ (2003) 1%]

## 0603 27Ω (27R0) 1%
designator R?, comment 27Ω (27R0) ±1%
贴片电阻; ComponentLink1Description: 供应商链接; ComponentLink1URL: http://www.szlcsc.com/product/details_25933.html; Package: 0603; Supplier: LC; SuppliersPartNumber: C25190
footprint 0603_R
pins: 1, 2

## 0603 30KΩ (3002) 1%
designator R?, comment 30KΩ (3002) ±1%
贴片电阻; ComponentLink1Description: 供应商链接; ComponentLink1URL: http://www.szlcsc.com/product/details_23711.html; Package: 0603; Supplier: LC; SuppliersPartNumber: C22984
footprint 0603_R
pins: 1, 2

## 0603 33KΩ (3302) 1%
designator R?, comment 33KΩ (3302) ±1%
贴片电阻; ComponentLink1Description: 供应商链接; ComponentLink1URL: http://www.szlcsc.com/product/details_4623.html; Package: 0603; Supplier: LC; SuppliersPartNumber: C4216
footprint 0603_R
pins: 1, 2

## 0603 33Ω (33R0) 1%
designator R?, comment 33Ω (33R0) ±1%
贴片电阻; ComponentLink1Description: 供应商链接; ComponentLink1URL: http://www.szlcsc.com/product/details_23867.html; Package: 0603; Supplier: LC; SuppliersPartNumber: C23140
footprint 0603_R
pins: 1, 2

## 0603 36KΩ (3602) 1%
designator R?, comment 36KΩ (3602) ±1%
贴片电阻; ComponentLink1Description: 供应商链接; ComponentLink1URL: http://www.szlcsc.com/product/details_23874.html; Package: 0603; Supplier: LC; SuppliersPartNumber: C23147
footprint 0603_R
pins: 1, 2

## 0603 39KΩ (3902) 1%
designator R?, comment 39KΩ (3902) ±1%
贴片电阻; ComponentLink1Description: 供应商链接; ComponentLink1URL: http://www.szlcsc.com/product/details_23880.html; Package: 0603; Supplier: LC; SuppliersPartNumber: C23153
footprint 0603_R
pins: 1, 2

## 0603 40.2KΩ (4022) 1%
designator R?, comment 40.2KΩ (4022) ±1%
贴片电阻; ComponentLink1Description: 供应商链接; ComponentLink1URL: http://www.szlcsc.com/product/details_13081.html; Package: 0603; Supplier: LC; SuppliersPartNumber: C12447
footprint 0603_R
pins: 1, 2

## 0603 43KΩ (4302) 1%
designator R?, comment 43KΩ (4302) ±1%
贴片电阻; ComponentLink1Description: 供应商链接; ComponentLink1URL: http://www.szlcsc.com/product/details_23899.html; Package: 0603; Supplier: LC; SuppliersPartNumber: C23172
footprint 0603_R
pins: 1, 2

## 0603 47KΩ (4702) 1%
designator R?, comment 47KΩ (4702) ±1%
贴片电阻; ComponentLink1Description: 供应商链接; ComponentLink1URL: http://www.szlcsc.com/product/details_26562.html; Package: 0603; Supplier: LC; SuppliersPartNumber: C25819
footprint 0603_R
pins: 1, 2

## 0603 47Ω (47R0) 1%
designator R?, comment 47Ω (47R0) ±1%
贴片电阻; ComponentLink1Description: 供应商链接; ComponentLink1URL: http://www.szlcsc.com/product/details_23909.html; Package: 0603; Supplier: LC; SuppliersPartNumber: C23182
footprint 0603_R
pins: 1, 2

## 0603 49.9KΩ (4992) 1%
designator R?, comment 49.9KΩ (4992) ±1%
贴片电阻; ComponentLink1Description: 供应商链接; ComponentLink1URL: http://www.szlcsc.com/product/details_23911.html; Package: 0603; Supplier: LC; SuppliersPartNumber: C23184
footprint 0603_R
pins: 1, 2

## 0603 49.9Ω (49R9) 1%
designator R?, comment 49.9Ω (49R9) ±1%
贴片电阻; ComponentLink1Description: 供应商链接; ComponentLink1URL: http://www.szlcsc.com/product/details_23912.html; Package: 0603; Supplier: LC; SuppliersPartNumber: C23185
footprint 0603_R
pins: 1, 2

## 0603 51KΩ (5102) 1%
designator R?, comment 51KΩ (5102) ±1%
贴片电阻; ComponentLink1Description: 供应商链接; ComponentLink1URL: http://www.szlcsc.com/product/details_23923.html; Package: 0603; Supplier: LC; SuppliersPartNumber: C23196
footprint 0603_R
pins: 1, 2

## 0603 51Ω (51R0) 1%
designator R?, comment 51Ω (51R0) ±1%
贴片电阻; ComponentLink1Description: 供应商链接; ComponentLink1URL: http://www.szlcsc.com/product/details_23924.html; Package: 0603; Supplier: LC; SuppliersPartNumber: C23197
footprint 0603_R
pins: 1, 2

## 0603 56KΩ (5602) 1%
designator R?, comment 56KΩ (5602) ±1%
贴片电阻; ComponentLink1Description: 供应商链接; ComponentLink1URL: http://www.szlcsc.com/product/details_23933.html; Package: 0603; Supplier: LC; SuppliersPartNumber: C23206
footprint 0603_R
pins: 1, 2

## 0603 56Ω (56R0) 1%
designator R?, comment 56Ω (56R0) ±1%
贴片电阻; ComponentLink1Description: 供应商链接; ComponentLink1URL: http://www.szlcsc.com/product/details_25939.html; Package: 0603; Supplier: LC; SuppliersPartNumber: C25196
footprint 0603_R
pins: 1, 2

## 0603 62KΩ (6202) 1%
designator R?, comment 62KΩ (6202) ±1%
贴片电阻; ComponentLink1Description: 供应商链接; ComponentLink1URL: http://www.szlcsc.com/product/details_23948.html; Package: 0603; Supplier: LC; SuppliersPartNumber: C23221
footprint 0603_R
pins: 1, 2

## 0603 68KΩ (6802) 1%
designator R?, comment 68KΩ (6802) ±1%
贴片电阻; ComponentLink1Description: 供应商链接; ComponentLink1URL: http://www.szlcsc.com/product/details_23958.html; Package: 0603; Supplier: LC; SuppliersPartNumber: C23231
footprint 0603_R
pins: 1, 2

## 0603 68Ω (68R0) 1%
designator R?, comment 68Ω (68R0) ±1%
贴片电阻; ComponentLink1Description: 供应商链接; ComponentLink1URL: http://www.szlcsc.com/product/details_28341.html; Package: 0603; Supplier: LC; SuppliersPartNumber: C27592
footprint 0603_R
pins: 1, 2

## 0603 75KΩ (7502) 1%
designator R?, comment 75KΩ (7502) ±1%
贴片电阻; ComponentLink1Description: 供应商链接; ComponentLink1URL: http://www.szlcsc.com/product/details_23969.html; Package: 0603; Supplier: LC; SuppliersPartNumber: C23242
footprint 0603_R
pins: 1, 2

## 0603 75Ω (75R0) 1%
designator R?, comment 75Ω (75R0) ±1%
贴片电阻; ComponentLink1Description: 供应商链接; ComponentLink1URL: http://www.szlcsc.com/product/details_4682.html; Package: 0603; Supplier: LC; SuppliersPartNumber: C4275
footprint 0603_R
pins: 1, 2

## 0603 82KΩ (8202) 1%
designator R?, comment 82KΩ (8202) ±1%
贴片电阻; ComponentLink1Description: 供应商链接; ComponentLink1URL: http://www.szlcsc.com/product/details_23981.html; Package: 0603; Supplier: LC; SuppliersPartNumber: C23254
footprint 0603_R
pins: 1, 2

## 0603 82Ω (82R0) 1%
designator R?, comment 82Ω (82R0) ±1%
贴片电阻; ComponentLink1Description: 供应商链接; ComponentLink1URL: http://www.szlcsc.com/product/details_23982.html; Package: 0603; Supplier: LC; SuppliersPartNumber: C23255
footprint 0603_R
pins: 1, 2

## 0603 91KΩ (9102) 1%
designator R?, comment 91KΩ (9102) ±1%
贴片电阻; ComponentLink1Description: 供应商链接; ComponentLink1URL: http://www.szlcsc.com/product/details_23992.html; Package: 0603; Supplier: LC; SuppliersPartNumber: C23265
footprint 0603_R
pins: 1, 2

## 0603 91Ω (91R0) 1%
designator R?, comment 91Ω (91R0) ±1%
贴片电阻; ComponentLink1Description: 供应商链接; ComponentLink1URL: http://www.szlcsc.com/product/details_25942.html; Package: 0603; Supplier: LC; SuppliersPartNumber: C25199
footprint 0603_R
pins: 1, 2

## 0603 100KΩ (1003) 1%
designator R?, comment 100KΩ (1003) ±1%
贴片电阻; ComponentLink1Description: 供应商链接; ComponentLink1URL: http://www.szlcsc.com/product/details_26546.html; Package: 0603; Supplier: LC; SuppliersPartNumber: C25803
footprint 0603_R
pins: 1, 2

## 0603 100Ω (1000) 1%
designator R?, comment 100Ω (1000) ±1%
贴片电阻; ComponentLink1Description: 供应商链接; ComponentLink1URL: http://www.szlcsc.com/product/details_23502.html; Package: 0603; Supplier: LC; SuppliersPartNumber: C22775
footprint 0603_R
pins: 1, 2

## 0603 110KΩ (1103) 1%
designator R?, comment 110KΩ (1103) ±1%
贴片电阻; ComponentLink1Description: 供应商链接; ComponentLink1URL: http://www.szlcsc.com/product/details_26548.html; Package: 0603; Supplier: LC; SuppliersPartNumber: C25805
footprint 0603_R
pins: 1, 2

## 0603 110Ω (1100) 1%
designator R?, comment 110Ω (1100) ±1%
贴片电阻; ComponentLink1Description: 供应商链接; ComponentLink1URL: http://www.szlcsc.com/product/details_23508.html; Package: 0603; Supplier: LC; SuppliersPartNumber: C22781
footprint 0603_R
pins: 1, 2

## 0603 120KΩ (1203) 1%
designator R?, comment 120KΩ (1203) ±1%
贴片电阻; ComponentLink1Description: 供应商链接; ComponentLink1URL: http://www.szlcsc.com/product/details_26551.html; Package: 0603; Supplier: LC; SuppliersPartNumber: C25808
footprint 0603_R
pins: 1, 2

## 0603 120Ω (1200) 1%
designator R?, comment 120Ω (1200) ±1%
贴片电阻; ComponentLink1Description: 供应商链接; ComponentLink1URL: http://www.szlcsc.com/product/details_23514.html; Package: 0603; Supplier: LC; SuppliersPartNumber: C22787
footprint 0603_R
pins: 1, 2

## 0603 130KΩ (1303) 1%
designator R?, comment 130KΩ (1303) ±1%
贴片电阻; ComponentLink1Description: 供应商链接; ComponentLink1URL: http://www.szlcsc.com/product/details_23522.html; Package: 0603; Supplier: LC; SuppliersPartNumber: C22795
footprint 0603_R
pins: 1, 2

## 0603 130Ω (1300) 1%
designator R?, comment 130Ω (1300) ±1%
贴片电阻; ComponentLink1Description: 供应商链接; ComponentLink1URL: http://www.szlcsc.com/product/details_23523.html; Package: 0603; Supplier: LC; SuppliersPartNumber: C22796
footprint 0603_R
pins: 1, 2

## 0603 150KΩ (1503) 1%
designator R?, comment 150KΩ (1503) ±1%
贴片电阻; ComponentLink1Description: 供应商链接; ComponentLink1URL: http://www.szlcsc.com/product/details_23534.html; Package: 0603; Supplier: LC; SuppliersPartNumber: C22807
footprint 0603_R
pins: 1, 2

## 0603 150Ω (1500) 1%
designator R?, comment 150Ω (1500) ±1%
贴片电阻; ComponentLink1Description: 供应商链接; ComponentLink1URL: http://www.szlcsc.com/product/details_23535.html; Package: 0603; Supplier: LC; SuppliersPartNumber: C22808
footprint 0603_R
pins: 1, 2

## 0603 160KΩ (1603) 1%
designator R?, comment 160KΩ (1603) ±1%
贴片电阻; ComponentLink1Description: 供应商链接; ComponentLink1URL: http://www.szlcsc.com/product/details_23540.html; Package: 0603; Supplier: LC; SuppliersPartNumber: C22813
footprint 0603_R
pins: 1, 2

## 0603 160Ω (1600) 1%
designator R?, comment 160Ω (1600) ±1%
贴片电阻; ComponentLink1Description: 供应商链接; ComponentLink1URL: http://www.szlcsc.com/product/details_23541.html; Package: 0603; Supplier: LC; SuppliersPartNumber: C22814
footprint 0603_R
pins: 1, 2

## 0603 180KΩ (1803) 1%
designator R?, comment 180KΩ (1803) ±1%
贴片电阻; ComponentLink1Description: 供应商链接; ComponentLink1URL: http://www.szlcsc.com/product/details_23554.html; Package: 0603; Supplier: LC; SuppliersPartNumber: C22827
footprint 0603_R
pins: 1, 2

## 0603 180Ω (1800) 1%
designator R?, comment 180Ω (1800) ±1%
贴片电阻; ComponentLink1Description: 供应商链接; ComponentLink1URL: http://www.szlcsc.com/product/details_23555.html; Package: 0603; Supplier: LC; SuppliersPartNumber: C22828
footprint 0603_R
pins: 1, 2

## 0603 200KΩ (2003) 1%
designator R?, comment 200KΩ (2003) ±1%
贴片电阻; ComponentLink1Description: 供应商链接; ComponentLink1URL: http://www.szlcsc.com/product/details_26554.html; Package: 0603; Supplier: LC; SuppliersPartNumber: C25811
footprint 0603_R
pins: 1, 2

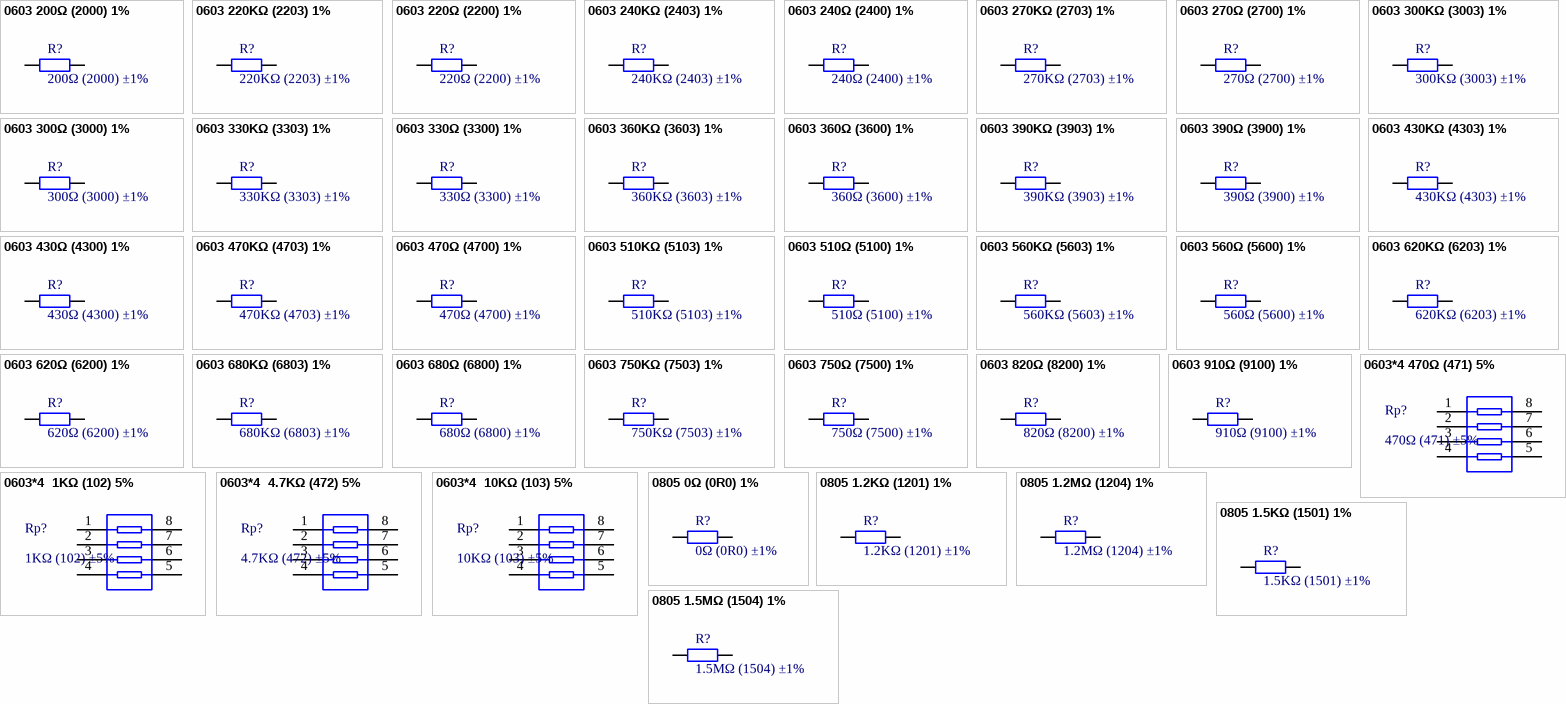
[diagram p4: symbols 0603 200Ω (2000) 1% to 0805 1.5MΩ (1504) 1%]

## 0603 200Ω (2000) 1%
designator R?, comment 200Ω (2000) ±1%
贴片电阻; ComponentLink1Description: 供应商链接; ComponentLink1URL: http://www.szlcsc.com/product/details_8708.html; Package: 0603; Supplier: LC; SuppliersPartNumber: C8218
footprint 0603_R
pins: 1, 2

## 0603 220KΩ (2203) 1%
designator R?, comment 220KΩ (2203) ±1%
贴片电阻; ComponentLink1Description: 供应商链接; ComponentLink1URL: http://www.szlcsc.com/product/details_23688.html; Package: 0603; Supplier: LC; SuppliersPartNumber: C22961
footprint 0603_R
pins: 1, 2

## 0603 220Ω (2200) 1%
designator R?, comment 220Ω (2200) ±1%
贴片电阻; ComponentLink1Description: 供应商链接; ComponentLink1URL: http://www.szlcsc.com/product/details_23689.html; Package: 0603; Supplier: LC; SuppliersPartNumber: C22962
footprint 0603_R
pins: 1, 2

## 0603 240KΩ (2403) 1%
designator R?, comment 240KΩ (2403) ±1%
贴片电阻; ComponentLink1Description: 供应商链接; ComponentLink1URL: http://www.szlcsc.com/product/details_4604.html; Package: 0603; Supplier: LC; SuppliersPartNumber: C4197
footprint 0603_R
pins: 1, 2

## 0603 240Ω (2400) 1%
designator R?, comment 240Ω (2400) ±1%
贴片电阻; ComponentLink1Description: 供应商链接; ComponentLink1URL: http://www.szlcsc.com/product/details_24083.html; Package: 0603; Supplier: LC; SuppliersPartNumber: C23350
footprint 0603_R
pins: 1, 2

## 0603 270KΩ (2703) 1%
designator R?, comment 270KΩ (2703) ±1%
贴片电阻; ComponentLink1Description: 供应商链接; ComponentLink1URL: http://www.szlcsc.com/product/details_23692.html; Package: 0603; Supplier: LC; SuppliersPartNumber: C22965
footprint 0603_R
pins: 1, 2

## 0603 270Ω (2700) 1%
designator R?, comment 270Ω (2700) ±1%
贴片电阻; ComponentLink1Description: 供应商链接; ComponentLink1URL: http://www.szlcsc.com/product/details_23693.html; Package: 0603; Supplier: LC; SuppliersPartNumber: C22966
footprint 0603_R
pins: 1, 2

## 0603 300KΩ (3003) 1%
designator R?, comment 300KΩ (3003) ±1%
贴片电阻; ComponentLink1Description: 供应商链接; ComponentLink1URL: http://www.szlcsc.com/product/details_23751.html; Package: 0603; Supplier: LC; SuppliersPartNumber: C23024
footprint 0603_R
pins: 1, 2

## 0603 300Ω (3000) 1%
designator R?, comment 300Ω (3000) ±1%
贴片电阻; ComponentLink1Description: 供应商链接; ComponentLink1URL: http://www.szlcsc.com/product/details_23752.html; Package: 0603; Supplier: LC; SuppliersPartNumber: C23025
footprint 0603_R
pins: 1, 2

## 0603 330KΩ (3303) 1%
designator R?, comment 330KΩ (3303) ±1%
贴片电阻; ComponentLink1Description: 供应商链接; ComponentLink1URL: http://www.szlcsc.com/product/details_23864.html; Package: 0603; Supplier: LC; SuppliersPartNumber: C23137
footprint 0603_R
pins: 1, 2

## 0603 330Ω (3300) 1%
designator R?, comment 330Ω (3300) ±1%
贴片电阻; ComponentLink1Description: 供应商链接; ComponentLink1URL: http://www.szlcsc.com/product/details_23865.html; Package: 0603; Supplier: LC; SuppliersPartNumber: C23138
footprint 0603_R
pins: 1, 2

## 0603 360KΩ (3603) 1%
designator R?, comment 360KΩ (3603) ±1%
贴片电阻; ComponentLink1Description: 供应商链接; ComponentLink1URL: http://www.szlcsc.com/product/details_23873.html; Package: 0603; Supplier: LC; SuppliersPartNumber: C23146
footprint 0603_R
pins: 1, 2

## 0603 360Ω (3600) 1%
designator R?, comment 360Ω (3600) ±1%
贴片电阻; ComponentLink1Description: 供应商链接; ComponentLink1URL: http://www.szlcsc.com/product/details_25937.html; Package: 0603; Supplier: LC; SuppliersPartNumber: C25194
footprint 0603_R
pins: 1, 2

## 0603 390KΩ (3903) 1%
designator R?, comment 390KΩ (3903) ±1%
贴片电阻; ComponentLink1Description: 供应商链接; ComponentLink1URL: http://www.szlcsc.com/product/details_23877.html; Package: 0603; Supplier: LC; SuppliersPartNumber: C23150
footprint 0603_R
pins: 1, 2

## 0603 390Ω (3900) 1%
designator R?, comment 390Ω (3900) ±1%
贴片电阻; ComponentLink1Description: 供应商链接; ComponentLink1URL: http://www.szlcsc.com/product/details_23878.html; Package: 0603; Supplier: LC; SuppliersPartNumber: C23151
footprint 0603_R
pins: 1, 2

## 0603 430KΩ (4303) 1%
designator R?, comment 430KΩ (4303) ±1%
贴片电阻; ComponentLink1Description: 供应商链接; ComponentLink1URL: http://www.szlcsc.com/product/details_26712.html; Package: 0603; Supplier: LC; SuppliersPartNumber: C25969
footprint 0603_R
pins: 1, 2

## 0603 430Ω (4300) 1%
designator R?, comment 430Ω (4300) ±1%
贴片电阻; ComponentLink1Description: 供应商链接; ComponentLink1URL: http://www.szlcsc.com/product/details_23897.html; Package: 0603; Supplier: LC; SuppliersPartNumber: C23170
footprint 0603_R
pins: 1, 2

## 0603 470KΩ (4703) 1%
designator R?, comment 470KΩ (4703) ±1%
贴片电阻; ComponentLink1Description: 供应商链接; ComponentLink1URL: http://www.szlcsc.com/product/details_23905.html; Package: 0603; Supplier: LC; SuppliersPartNumber: C23178
footprint 0603_R
pins: 1, 2

## 0603 470Ω (4700) 1%
designator R?, comment 470Ω (4700) ±1%
贴片电阻; ComponentLink1Description: 供应商链接; ComponentLink1URL: http://www.szlcsc.com/product/details_23906.html; Package: 0603; Supplier: LC; SuppliersPartNumber: C23179
footprint 0603_R
pins: 1, 2

## 0603 510KΩ (5103) 1%
designator R?, comment 510KΩ (5103) ±1%
贴片电阻; ComponentLink1Description: 供应商链接; ComponentLink1URL: http://www.szlcsc.com/product/details_23919.html; Package: 0603; Supplier: LC; SuppliersPartNumber: C23192
footprint 0603_R
pins: 1, 2

## 0603 510Ω (5100) 1%
designator R?, comment 510Ω (5100) ±1%
贴片电阻; ComponentLink1Description: 供应商链接; ComponentLink1URL: http://www.szlcsc.com/product/details_23920.html; Package: 0603; Supplier: LC; SuppliersPartNumber: C23193
footprint 0603_R
pins: 1, 2

## 0603 560KΩ (5603) 1%
designator R?, comment 560KΩ (5603) ±1%
贴片电阻; ComponentLink1Description: 供应商链接; ComponentLink1URL: http://www.szlcsc.com/product/details_23930.html; Package: 0603; Supplier: LC; SuppliersPartNumber: C23203
footprint 0603_R
pins: 1, 2

## 0603 560Ω (5600) 1%
designator R?, comment 560Ω (5600) ±1%
贴片电阻; ComponentLink1Description: 供应商链接; ComponentLink1URL: http://www.szlcsc.com/product/details_23931.html; Package: 0603; Supplier: LC; SuppliersPartNumber: C23204
footprint 0603_R
pins: 1, 2

## 0603 620KΩ (6203) 1%
designator R?, comment 620KΩ (6203) ±1%
贴片电阻; ComponentLink1Description: 供应商链接; ComponentLink1URL: http://www.szlcsc.com/product/details_23946.html; Package: 0603; Supplier: LC; SuppliersPartNumber: C23219
footprint 0603_R
pins: 1, 2

## 0603 620Ω (6200) 1%
designator R?, comment 620Ω (6200) ±1%
贴片电阻; ComponentLink1Description: 供应商链接; ComponentLink1URL: http://www.szlcsc.com/product/details_23947.html; Package: 0603; Supplier: LC; SuppliersPartNumber: C23220
footprint 0603_R
pins: 1, 2

## 0603 680KΩ (6803) 1%
designator R?, comment 680KΩ (6803) ±1%
贴片电阻; ComponentLink1Description: 供应商链接; ComponentLink1URL: http://www.szlcsc.com/product/details_26565.html; Package: 0603; Supplier: LC; SuppliersPartNumber: C25822
footprint 0603_R
pins: 1, 2

## 0603 680Ω (6800) 1%
designator R?, comment 680Ω (6800) ±1%
贴片电阻; ComponentLink1Description: 供应商链接; ComponentLink1URL: http://www.szlcsc.com/product/details_23955.html; Package: 0603; Supplier: LC; SuppliersPartNumber: C23228
footprint 0603_R
pins: 1, 2

## 0603 750KΩ (7503) 1%
designator R?, comment 750KΩ (7503) ±1%
贴片电阻; ComponentLink1Description: 供应商链接; ComponentLink1URL: http://www.szlcsc.com/product/details_23967.html; Package: 0603; Supplier: LC; SuppliersPartNumber: C23240
footprint 0603_R
pins: 1, 2

## 0603 750Ω (7500) 1%
designator R?, comment 750Ω (7500) ±1%
贴片电阻; ComponentLink1Description: 供应商链接; ComponentLink1URL: http://www.szlcsc.com/product/details_23968.html; Package: 0603; Supplier: LC; SuppliersPartNumber: C23241
footprint 0603_R
pins: 1, 2

## 0603 820Ω (8200) 1%
designator R?, comment 820Ω (8200) ±1%
贴片电阻; ComponentLink1Description: 供应商链接; ComponentLink1URL: http://www.szlcsc.com/product/details_23980.html; Package: 0603; Supplier: LC; SuppliersPartNumber: C23253
footprint 0603_R
pins: 1, 2

## 0603 910Ω (9100) 1%
designator R?, comment 910Ω (9100) ±1%
贴片电阻; ComponentLink1Description: 供应商链接; ComponentLink1URL: http://www.szlcsc.com/product/details_23991.html; Package: 0603; Supplier: LC; SuppliersPartNumber: C23264
footprint 0603_R
pins: 1, 2

## 0603*4 470Ω (471) 5%
designator Rp?, comment 470Ω (471) ±5%
贴片排阻; ComponentLink1Description: 供应商链接; ComponentLink1URL: http://www.szlcsc.com/product/details_26253.html; Package: 0603*4; Supplier: LC; SuppliersPartNumber: C25510
footprint 0603_Rx4
pins: 1, 2, 3, 4, 5, 6, 7, 8